# Altium footprint library DDR3_SODIMM.PcbLib: 1 footprints
Each footprint in its own frame and in the unit in brackets; x right, y up, seen from the top. Pads: shape width x height; smd on the part's side, far side on the other; paste and mask are expansions set on the pad; w line width, h text height; cw(c..) or ccw(c..) is an arc to the next point about the centre after c.
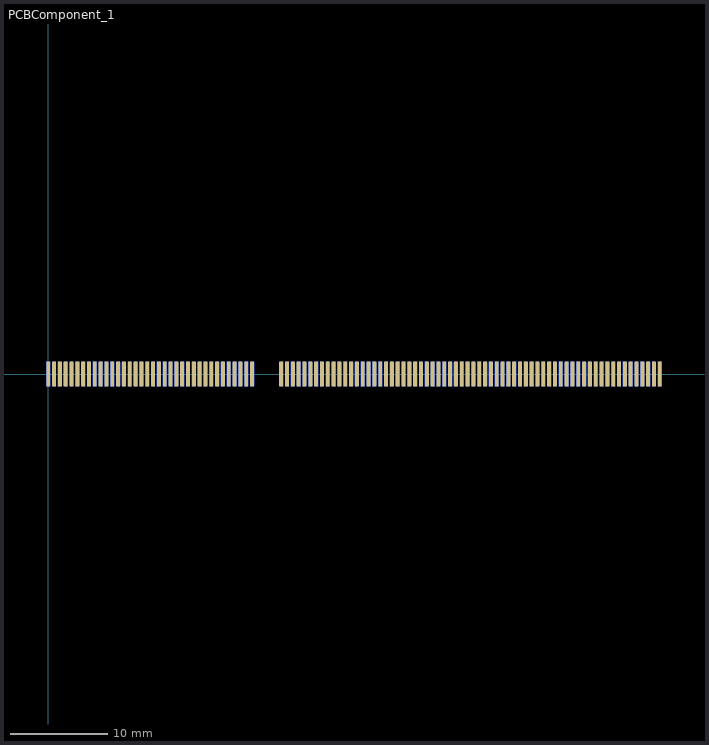
[diagram p0: the footprint, top view; thin cyan lines are the x and y axes]

## PCBComponent_1 [mm]
pads (204):
  rrect30% 0.4x2.55 smd: 1(0,0) 3(0.6,0) 5(1.2,0) 7(1.8,0) 9(2.4,0) 11(3,0) 13(3.6,0) 15(4.2,0) 17(4.8,0) 19(5.4,0) 21(6,0) 23(6.6,0) 25(7.2,0) 27(7.8,0) 29(8.4,0) 31(9,0) 33(9.6,0) 35(10.2,0) 37(10.8,0) 39(11.4,0) 41(12,0) 43(12.6,0) 45(13.2,0) 47(13.8,0) 49(14.4,0) 51(15,0) 53(15.6,0) 55(16.2,0) 57(16.8,0) 59(17.4,0) 61(18,0) 63(18.6,0) 65(19.2,0) 67(19.8,0) 69(20.4,0) 71(21,0) 73(24,0) 75(24.6,0) 77(25.2,0) 79(25.8,0) 81(26.4,0) 83(27,0) 85(27.6,0) 87(28.2,0) 89(28.8,0) 91(29.4,0) 93(30,0) 95(30.6,0) 97(31.2,0) 99(31.8,0) 101(32.4,0) 103(33,0) 105(33.6,0) 107(34.2,0) 109(34.8,0) 111(35.4,0) 113(36,0) 115(36.6,0) 117(37.2,0) 119(37.8,0) 121(38.4,0) 123(39,0) 125(39.6,0) 127(40.2,0) 129(40.8,0) 131(41.4,0) 133(42,0) 135(42.6,0) 137(43.2,0) 139(43.8,0) 141(44.4,0) 143(45,0) 145(45.6,0) 147(46.2,0) 149(46.8,0) 151(47.4,0) 153(48,0) 155(48.6,0) 157(49.2,0) 159(49.8,0) 161(50.4,0) 163(51,0) 165(51.6,0) 167(52.2,0) 169(52.8,0) 171(53.4,0) 173(54,0) 175(54.6,0) 177(55.2,0) 179(55.8,0) 181(56.4,0) 183(57,0) 185(57.6,0) 187(58.2,0) 189(58.8,0) 191(59.4,0) 193(60,0) 195(60.6,0) 197(61.2,0) 199(61.8,0) 201(62.4,0) 203(63,0)
  rrect30% 0.4x2.55 smd far side: 2(0,0) 4(0.6,0) 6(1.2,0) 8(1.8,0) 10(2.4,0) 12(3,0) 14(3.6,0) 16(4.2,0) 18(4.8,0) 20(5.4,0) 22(6,0) 24(6.6,0) 26(7.2,0) 28(7.8,0) 30(8.4,0) 32(9,0) 34(9.6,0) 36(10.2,0) 38(10.8,0) 40(11.4,0) 42(12,0) 44(12.6,0) 46(13.2,0) 48(13.8,0) 50(14.4,0) 52(15,0) 54(15.6,0) 56(16.2,0) 58(16.8,0) 60(17.4,0) 62(18,0) 64(18.6,0) 66(19.2,0) 68(19.8,0) 70(20.4,0) 72(21,0) 74(24,0) 76(24.6,0) 78(25.2,0) 80(25.8,0) 82(26.4,0) 84(27,0) 86(27.6,0) 88(28.2,0) 90(28.8,0) 92(29.4,0) 94(30,0) 96(30.6,0) 98(31.2,0) 100(31.8,0) 102(32.4,0) 104(33,0) 106(33.6,0) 108(34.2,0) 110(34.8,0) 112(35.4,0) 114(36,0) 116(36.6,0) 118(37.2,0) 120(37.8,0) 122(38.4,0) 124(39,0) 126(39.6,0) 128(40.2,0) 130(40.8,0) 132(41.4,0) 134(42,0) 136(42.6,0) 138(43.2,0) 140(43.8,0) 142(44.4,0) 144(45,0) 146(45.6,0) 148(46.2,0) 150(46.8,0) 152(47.4,0) 154(48,0) 156(48.6,0) 158(49.2,0) 160(49.8,0) 162(50.4,0) 164(51,0) 166(51.6,0) 168(52.2,0) 170(52.8,0) 172(53.4,0) 174(54,0) 176(54.6,0) 178(55.2,0) 180(55.8,0) 182(56.4,0) 184(57,0) 186(57.6,0) 188(58.2,0) 190(58.8,0) 192(59.4,0) 194(60,0) 196(60.6,0) 198(61.2,0) 200(61.8,0) 202(62.4,0) 204(63,0)